# EAGLE library part DF12(*)-10DP-0.5V (library hirose-df12)
0.5mm Pitch SMT Board to Board Connector Source: http://www.hirose.co.jp/catalogj_hp/jd_DF12_20131205.pdf http://www.hirose.co.jp/cataloge_hp/en_DF12_20130411.pdf
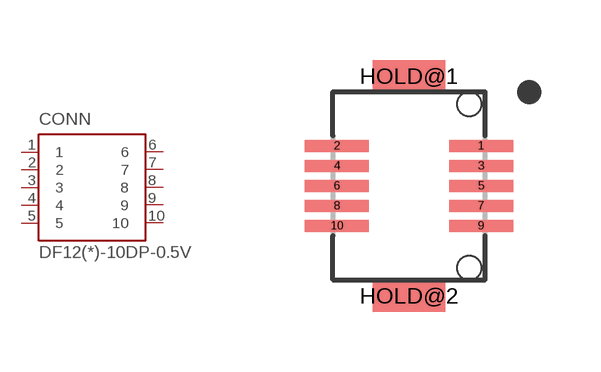
[diagram p0: symbol with the pads of DF12(*)-10DP-0.5V; footprint DF12(*)-10DP-0.5V]

Designator prefix CONN

## DF12(3.0)-10DP-0.5V  [DF12(*)-10DP-0.5V]
1  1
2  2
3  3
4  4
5  5
6  6
7  7
8  8
9  9
10  10

## Footprint DF12(*)-10DP-0.5V (pad centres in mm)
smd 1.6 x 0.3: 1 1.8,1; 2 -1.8,1; 3 1.8,0.5; 4 -1.8,0.5; 5 1.8,0; 6 -1.8,0; 7 1.8,-0.5; 8 -1.8,-0.5; 9 1.8,-1; 10 -1.8,-1
smd 1.8 x 0.8: HOLD@1 0,2.75; HOLD@2 0,-2.75
hole 0.6 at 1.5,2.05
hole 0.6 at 1.5,-2.05